# EAGLE library part STSPIN240 (library motor_drivers)
Motor / Motion / Ignition Controllers & Drivers Low voltage dual brush DC motor driver Source: Datasheet <http://www.st.com/content/ccc/resource/technical/document/datasheet/group3/2f/ef/09/12/89/cd/41/c8/DM00293532/files/DM00293532.pdf/jcr:content/translations/en.DM00293532.pdf>
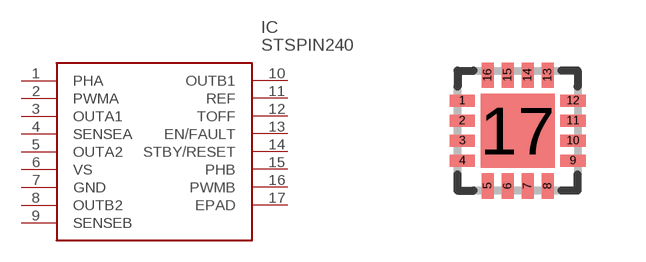
[diagram p6: symbol with the pads of VFQFPN(3X3X1.0MM-16L); footprint VFQFPN(3X3X1.0MM-16L)]

Designator prefix IC

## STSPIN240 (DESCRIPTION: Motor / Motion / Ignition Controllers & Drivers Low voltage dual brush DC motor driver; HEIGHT: mm; MANUFACTURER_NAME: STMicroelectronics; MANUFACTURER_PART_NUMBER: STSPIN240; MOUSER_PART_NUMBER: 511-STSPIN240; MOUSER_PRICE-STOCK: https://www.mouser.com/Search/Refine.aspx?Keyword=511-STSPIN240; RS_PART_NUMBER: 1623647P; RS_PRICE-STOCK: http://uk.rs-online.com/web/p/products/1623647P)  [VFQFPN(3X3X1.0MM-16L)]
1  PHA
2  PWMA
3  OUTA1
4  SENSEA
5  OUTA2
6  VS
7  GND
8  OUTB2
9  SENSEB
10  OUTB1
11  REF
12  TOFF
13  EN/FAULT
14  STBY/RESET
15  PHB
16  PWMB
17  EPAD

## Footprint VFQFPN(3X3X1.0MM-16L) (pad centres in mm)
VFQFPN(3x3x1.0mm-16L)
smd 0.63 x 0.3: 1 -1.385,0.75; 2 -1.385,0.25; 3 -1.385,-0.25; 4 -1.385,-0.75; 9 1.385,-0.75; 10 1.385,-0.25; 11 1.385,0.25; 12 1.385,0.75
smd 0.3 x 0.63: 5 -0.75,-1.385; 6 -0.25,-1.385; 7 0.25,-1.385; 8 0.75,-1.385; 13 0.75,1.385; 14 0.25,1.385; 15 -0.25,1.385; 16 -0.75,1.385
smd 1.85 x 1.85: 17 0,0